# Altium schematic symbol library SCH - CURRENT SHUNT AMPLIFIER - ONSEMI NCV21673.SchLib: 1 symbol
Pins are listed as number, name and electrical type; pins without a type are passive.

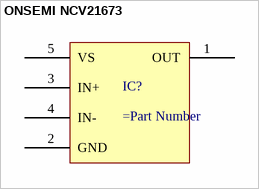
[diagram p0: symbol ONSEMI NCV21673]

## ONSEMI NCV21673
designator IC?
pins: 1 OUT, 2 GND, 3 IN+, 4 IN-, 5 VS